# Altium footprint library Conn_TE_87224-6_eec_0.PcbLib: 1 footprints
Each footprint in its own frame and in the unit in brackets; x right, y up, seen from the top. Pads: shape width x height; smd on the part's side, far side on the other; paste and mask are expansions set on the pad; w line width, h text height; cw(c..) or ccw(c..) is an arc to the next point about the centre after c.
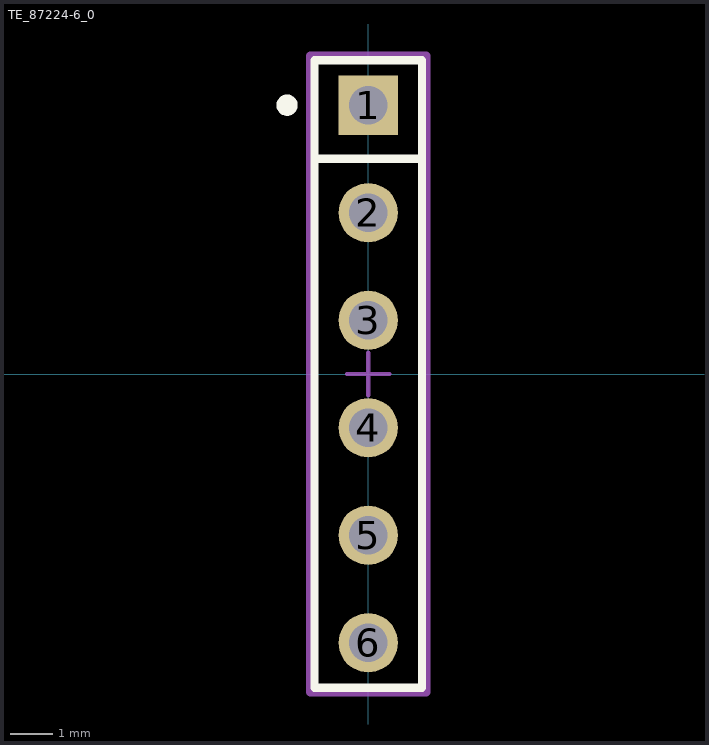
[diagram p0: the footprint, top view; thin cyan lines are the x and y axes]

## TE_87224-6_0 [mm]
pads (6):
  rect 1.4x1.4 hole 0.9 paste-1000 mask+0: 1(0,6.35)
  round 1.4 hole 0.9 paste-1000 mask+0: 2(0,3.81) 3(0,1.27) 4(0,-1.27) 5(0,-3.81) 6(0,-6.35)
Top Overlay:
  circle w0.25: c-1.918,6.35 r0.125
  lines w0.2: -1.168,5.08 1.168,5.08 ; -1.27,-7.417 1.27,-7.417 1.27,7.417 -1.27,7.417 -1.27,-7.417
Mechanical 10:
  lines w0.2: -1.37,-7.517 1.37,-7.517 1.37,7.517 -1.37,7.517 -1.37,-7.517
  text ".Designator" at 0,0 h1
Mechanical 12:
  lines w0.15: -1.27,-7.417 1.27,-7.417 1.27,7.417 -1.27,7.417 -1.27,-7.417
Mechanical 15:
  lines w0.1: -0.5,0 0.5,0 ; 0,-0.5 0,0.5
  lines w0.2: -1.37,-7.517 1.37,-7.517 1.37,7.517 -1.37,7.517 -1.37,-7.517
3D body "3dmodel.step": height 0.25, standoff 0, extent -1.37,-7.517 1.37,7.517